# Altium footprint library CERCAP_RADIAL.PcbLib: 1 footprints
Each footprint in its own frame and in the unit in brackets; x right, y up, seen from the top. Pads: shape width x height; smd on the part's side, far side on the other; paste and mask are expansions set on the pad; w line width, h text height; cw(c..) or ccw(c..) is an arc to the next point about the centre after c.
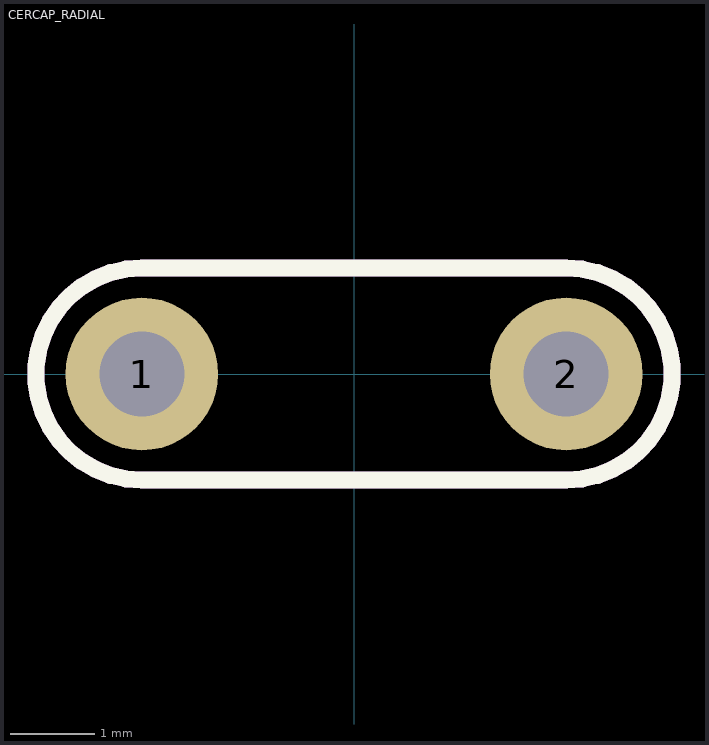
[diagram p0: the footprint, top view; thin cyan lines are the x and y axes]

## CERCAP_RADIAL [mm]
pads (2):
  round 1.8 hole 1: 1(-2.5,0) 2(2.5,0)
Top Overlay:
  lines w0.2: -2.5,-1.25 cw(c-2.5,0) -2.5,1.25 2.5,1.25 cw(c2.5,0) 2.5,-1.25 -2.5,-1.25
TopAssy:
  lines w0.2: -2.5,-1.25 cw(c-2.5,0) -2.5,1.25 2.5,1.25 cw(c2.5,0) 2.5,-1.25 -2.5,-1.25
3D body "Деталь1.STEP": height 6.61, standoff -2.49, extent -2.795,-1.34 2.795,1.2